# Altium footprint library OLED_0.96_I2C_SHIELD.PcbLib: 1 footprints
Each footprint in its own frame and in the unit in brackets; x right, y up, seen from the top. Pads: shape width x height; smd on the part's side, far side on the other; paste and mask are expansions set on the pad; w line width, h text height; cw(c..) or ccw(c..) is an arc to the next point about the centre after c.
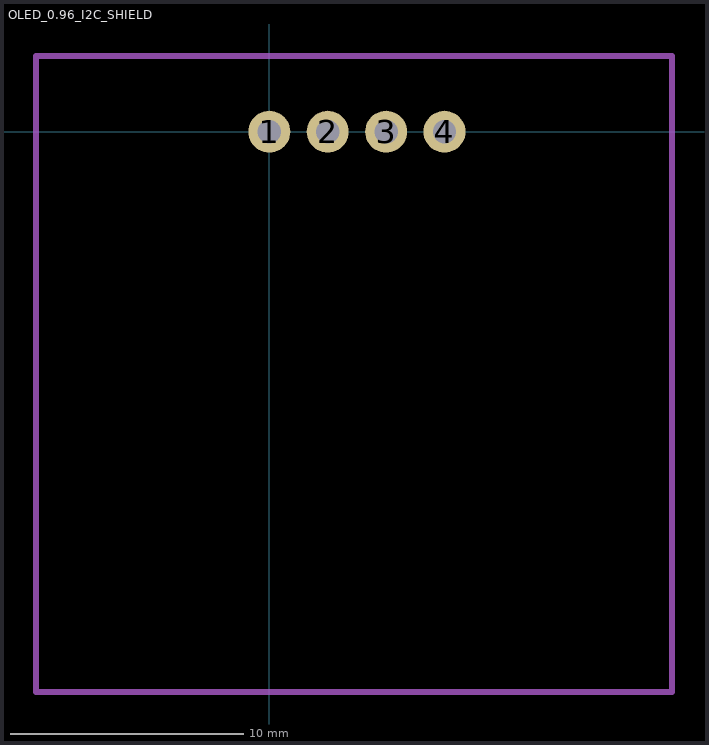
[diagram p0: the footprint, top view; thin cyan lines are the x and y axes]

## OLED_0.96_I2C_SHIELD [mm]
pads (4):
  round 1.8 hole 1: 1(0,0) 2(2.5,0) 3(5,0) 4(7.5,0)
TopAssy:
  lines w0.254: -10,-24 -10,3.25 17.25,3.25 17.25,-24 -10,-24
3D body "OLED_Arduino.STEP": height 6.91, standoff -5.35, extent -10.025,-25.3 17.275,2